# Altium schematic symbol library NTP53321G0JTTZ.SchLib: 1 symbol
Pins are listed as number, name and electrical type; pins without a type are passive.

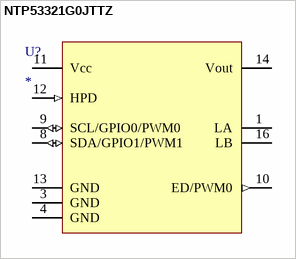
[diagram p0: symbol NTP53321G0JTTZ]

## NTP53321G0JTTZ
designator U?
Value: *
pins: 1 LA "Antenna connection", 3 GND (power) "ground", 4 GND (power) "ground", 8 SDA/GPIO1/PWM1 (io) "I2C data, GPIO1 and PWM1 MUX", 9 SCL/GPIO0/PWM0 (io) "I2C clk, GPIO0 and PWM0 MUX", 10 ED/PWM0 (out) "Event detection and PWM1 MUX", 11 Vcc (power) "External power supply", 12 HPD (in) "Hard power down", 13 GND (power) "ground", 14 Vout (power) "Energy harvesting voltage output", 16 LB "Antenna connection"